# EAGLE library part MAX3243 (library ftdi4)
MAX3243 RS232 interface 5 receive lines 3 line drives 5V or 3.3V operating voltage
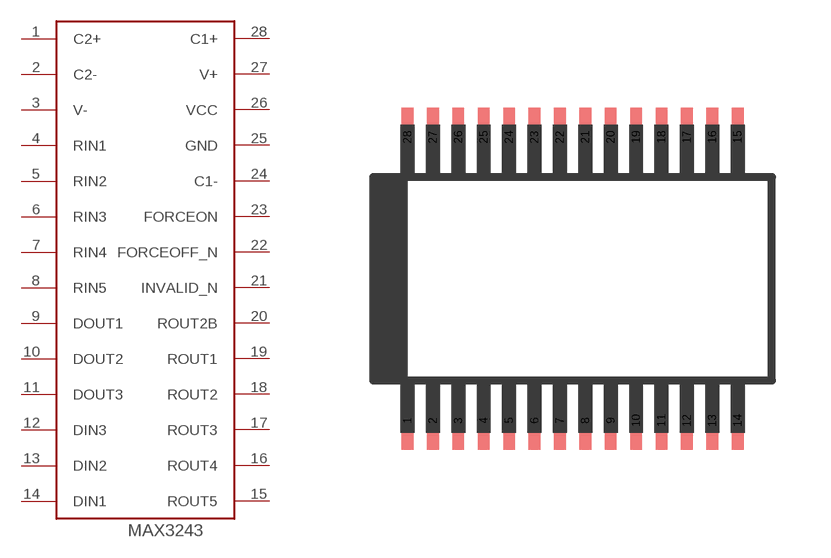
[diagram p6: symbol with the pads of SSOP-28; footprint SSOP-28]

Designator prefix -

## MAX3243  [SSOP-28]
1  C2+
2  C2-
3  V-
4  RIN1
5  RIN2
6  RIN3
7  RIN4
8  RIN5
9  DOUT1
10  DOUT2
11  DOUT3
12  DIN3
13  DIN2
14  DIN1
15  ROUT5
16  ROUT4
17  ROUT3
18  ROUT2
19  ROUT1
20  ROUT2B
21  INVALID_N
22  FORCEOFF_N
23  FORCEON
24  C1-
25  GND
26  VCC
27  V+
28  C1+

## Footprint SSOP-28 (pad centres in mm)
Shrink Small Outline Package: SSOP-28
smd 0.3 x 1.5: 1 -4.225,-3.625; 2 -3.575,-3.625; 3 -2.925,-3.625; 4 -2.275,-3.625; 5 -1.625,-3.625; 6 -0.975,-3.625; 7 -0.325,-3.625; 8 0.325,-3.625; 9 0.975,-3.625; 10 1.625,-3.625; 11 2.275,-3.625; 12 2.925,-3.625; 13 3.575,-3.625; 14 4.225,-3.625; 15 4.225,3.625; 16 3.575,3.625; 17 2.925,3.625; 18 2.275,3.625; 19 1.625,3.625; 20 0.975,3.625; 21 0.325,3.625; 22 -0.325,3.625; 23 -0.975,3.625; 24 -1.625,3.625; 25 -2.275,3.625; 26 -2.925,3.625; 27 -3.575,3.625; 28 -4.225,3.625